# Altium schematic symbol library Schlib_ShenZhen_XiaoTeng.SchLib: 1 symbol
Pins are listed as number, name and electrical type; pins without a type are passive.

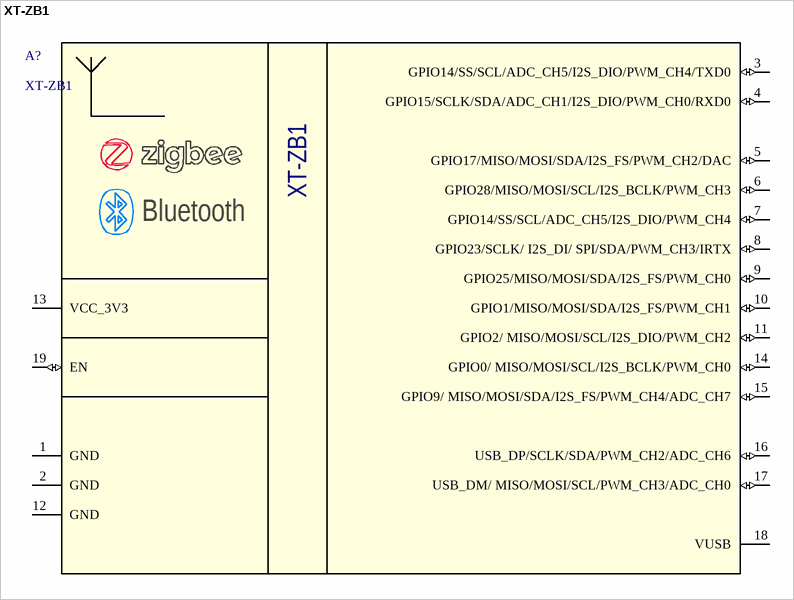
[diagram p0: symbol XT-ZB1]

## XT-ZB1
designator A?
Zigbee3.0 and BLE5.0 Coexistence Module; Manufacturer: ShenZhen XiaoTeng Technology; Part Number: XT-ZB1
footprint XT-ZB1
pins: 1 GND (power), 2 GND (power), 3 GPIO14/SS/SCL/ADC_CH5/I2S_DIO/PWM_CH4/TXD0 (io), 4 GPIO15/SCLK/SDA/ADC_CH1/I2S_DIO/PWM_CH0/RXD0 (io), 5 GPIO17/MISO/MOSI/SDA/I2S_FS/PWM_CH2/DAC (io), 6 GPIO28/MISO/MOSI/SCL/I2S_BCLK/PWM_CH3 (io), 7 GPIO14/SS/SCL/ADC_CH5/I2S_DIO/PWM_CH4 (io), 8 GPIO23/SCLK/ I2S_DI/ SPI/SDA/PWM_CH3/IRTX (io), 9 GPIO25/MISO/MOSI/SDA/I2S_FS/PWM_CH0 (io), 10 GPIO1/MISO/MOSI/SDA/I2S_FS/PWM_CH1 (io), 11 GPIO2/ MISO/MOSI/SCL/I2S_DIO/PWM_CH2 (io), 12 GND (power), 13 VCC_3V3 (power), 14 GPIO0/ MISO/MOSI/SCL/I2S_BCLK/PWM_CH0 (io), 15 GPIO9/ MISO/MOSI/SDA/I2S_FS/PWM_CH4/ADC_CH7 (io), 16 USB_DP/SCLK/SDA/PWM_CH2/ADC_CH6 (io), 17 USB_DM/ MISO/MOSI/SCL/PWM_CH3/ADC_CH0 (io), 18 VUSB (power), 19 EN (io)
text: Bluetooth